# Altium schematic symbol library Schlib1.SchLib: 5 symbols
Pins are listed as number, name and electrical type; pins without a type are passive.

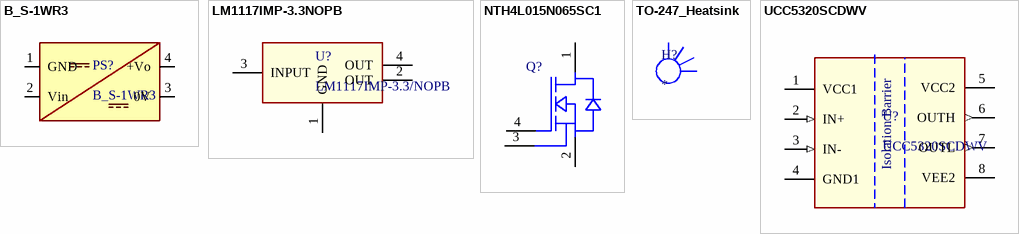
[diagram p0: symbols B_S-1WR3 to UCC5320SCDWV]

## B_S-1WR3
designator PS?
footprint B_S-1WR3
pins: 1 GND, 2 Vin, 3 0V, 4 +Vo

## LM1117IMP-3.3NOPB
designator U?, comment LM1117IMP-3.3/NOPB
800-mA 15-V linear voltage regulator 4-SOT-223 -40 to 125; Manufacturer_Name: Texas Instruments; TYPE: TYPE; RefDes: RefDes; Copyright: Copyright (C) 2025 Ultra Librarian. All rights reserved.; Manufacturer_Part_Number: LM1117IMP-3.3/NOPB; Datasheet: https://www.ti.com/lit/gpn/lm1117
footprint DCY0004A_M
pins: 1 GND (power), 2 OUT (power), 3 INPUT (power), 4 OUT (power)

## NTH4L015N065SC1
designator Q?  (value not drawn)
Max RDS(on) = 18.7 m at Vgs = 18V, Id = 60A; High Junction Temperature; 100% UIL Tested; RoHS Compliant; High Speed Switching and Low Capacitance; 650V rated; Manufacturer_Name: onsemi; Geometry.Height: 25.56mm; Manufacturer_Part_Number: NTH4L015N065SC1; Mouser Part Number: 863-NTH4L015N065SC1; Mouser Price/Stock: https://www.mouser.co.uk/ProductDetail/onsemi/NTH4L015N065SC1?qs=stqOd1AaK7%252BX4HlQwOMOTg%3D%3D; Arrow Part Number: NTH4L015N065SC1; Arrow Price/Stock: https://www.arrow.com/en/products/nth4l015n065sc1/on-semiconductor?region=nac; Datasheet Link: https://www.onsemi.com/pub/Collateral/NTH4L015N065SC1-D.PDF
footprint NTH4L015N065SC1
pins: 1 D, 2 S2, 3 S1, 4 G

## TO-247_Heatsink
designator H?
footprint Heatsink

## UCC5320SCDWV
designator U?
3k/5kVrms, 2A/2A single-channel isolated gate driver with UVLO referenced to GND or split output 8-SOIC -40 to 125; Manufacturer_Name: Texas Instruments; TYPE: TYPE; RefDes: RefDes; Copyright: Copyright (C) 2025 Ultra Librarian. All rights reserved.; Manufacturer_Part_Number: UCC5320SCDWV; Datasheet: https://www.ti.com/lit/gpn/ucc5320
footprint DWV0008A
pins: 1 VCC1 (power), 2 IN+ (in), 3 IN- (in), 4 GND1 (power), 5 VCC2 (power), 6 OUTH (out), 7 OUTL (out), 8 VEE2 (power)
text: Isolation Barrier